# EAGLE library part DPM_V125 (library wheat)
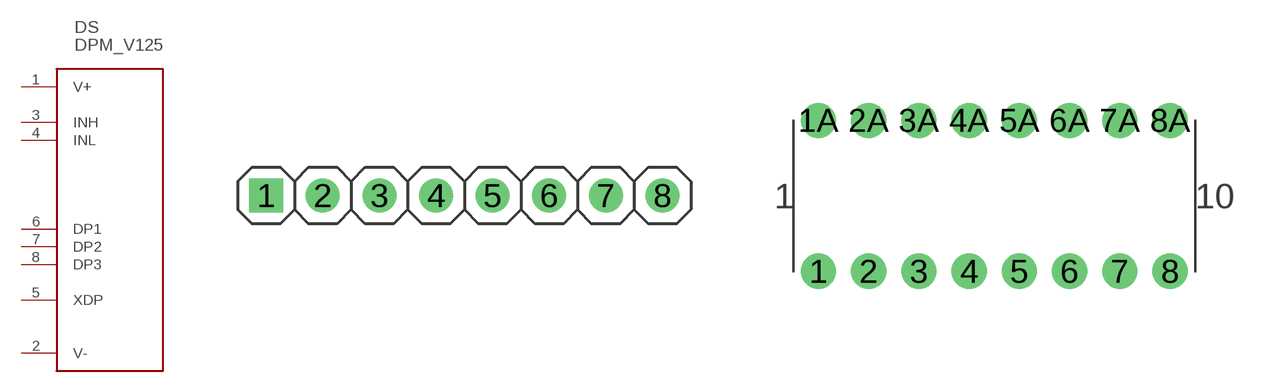
[diagram p277: symbol with the pads of HDR8; footprints HDR8, CON8_2P]

Designator prefix DS

## DPM_V125  [HDR8]
1  V+  pas
2  V-  pas
3  INH  in
4  INL  in
5  XDP  pas
6  DP1  pas
7  DP2  pas
8  DP3  pas

## DPM_V125_F  [CON8_2P]
1  V+  pas
1A  V+  pas
2  V-  pas
2A  V-  pas
3  INH  in
3A  INH  in
4  INL  in
4A  INL  in
5  XDP  pas
5A  XDP  pas
6  DP1  pas
6A  DP1  pas
7  DP2  pas
7A  DP2  pas
8  DP3  pas
8A  DP3  pas

## Footprint HDR8 (pad centres in mm)
drill 1.016 square: 1 -8.89,0
drill 1.016: 2 -6.35,0; 3 -3.81,0; 4 -1.27,0; 5 1.27,0; 6 3.81,0; 7 6.35,0; 8 8.89,0

## Footprint CON8_2P (pad centres in mm)
drill 1.016 pad 1.778: 1 -8.89,0; 1A -8.89,7.62; 2 -6.35,0; 2A -6.35,7.62; 3 -3.81,0; 3A -3.81,7.62; 4 -1.27,0; 4A -1.27,7.62; 5 1.27,0; 5A 1.27,7.62; 6 3.81,0; 6A 3.81,7.62; 7 6.35,0; 7A 6.35,7.62; 8 8.89,0; 8A 8.89,7.62